# Altium footprint library IoT-A28LI V1.00.PcbLib: 55 footprints (part 4 of 4)
Each footprint in its own frame and in the unit in brackets; x right, y up, seen from the top. Pads: shape width x height; smd on the part's side, far side on the other; paste and mask are expansions set on the pad; w line width, h text height; cw(c..) or ccw(c..) is an arc to the next point about the centre after c.
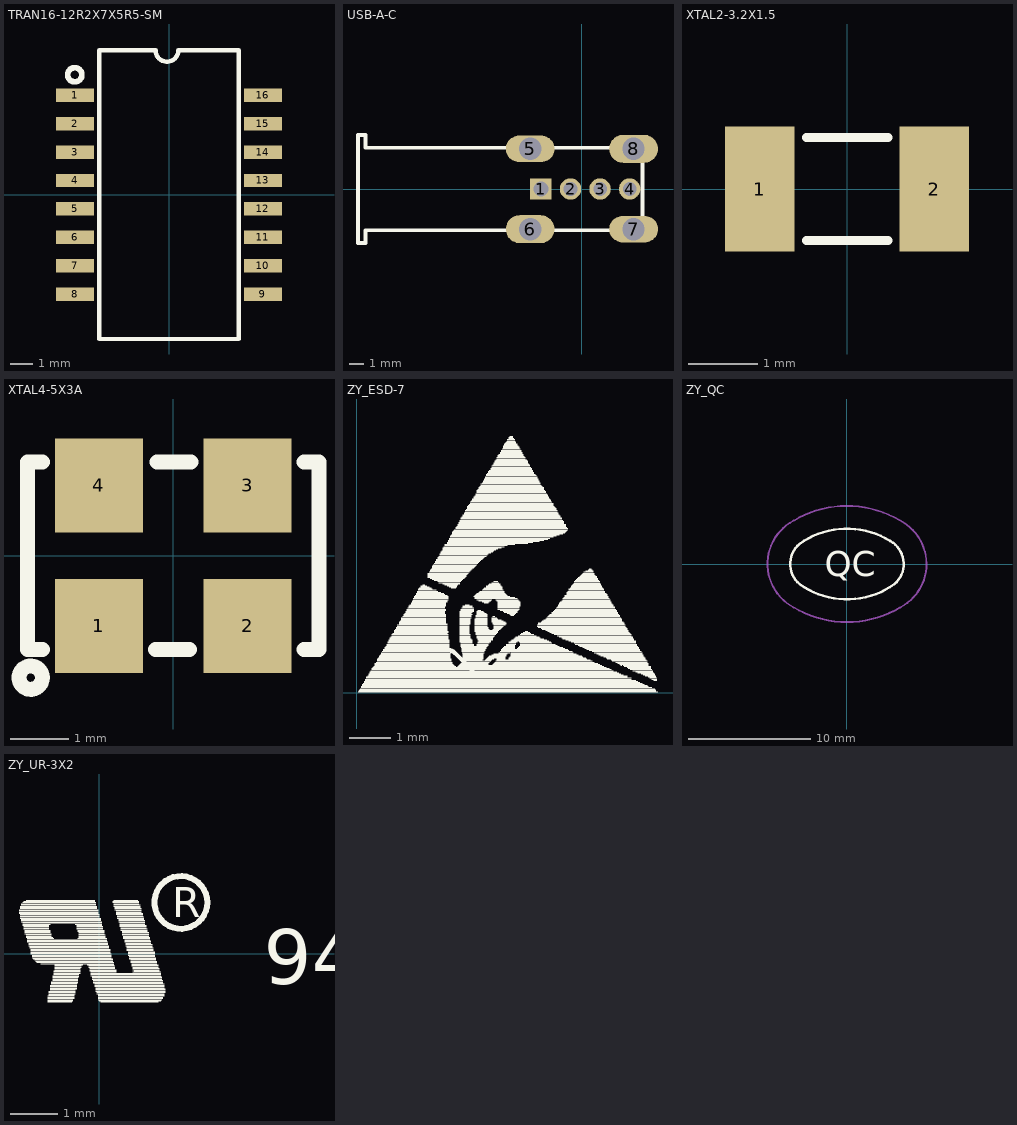
[diagram p3: the footprints below, top view; thin cyan lines are the x and y axes]

## TRAN16-12R2X7X5R5-SM [mm]
pads (16):
  rect 1.7x0.6 smd: 1(-4.2,4.445) 2(-4.2,3.175) 3(-4.2,1.905) 4(-4.2,0.635) 5(-4.2,-0.635) 6(-4.2,-1.905) 7(-4.2,-3.175) 8(-4.2,-4.445) 9(4.2,-4.445) 10(4.2,-3.175) 11(4.2,-1.905) 12(4.2,-0.635) 13(4.2,0.635) 14(4.2,1.905) 15(4.2,3.175) 16(4.2,4.445)
Top Overlay:
  circle w0.254: c-4.212,5.359 r0.317
  lines w0.2: -3.124,-6.45 3.124,-6.45 3.124,6.45 0.418,6.45 cw(c-0.091,6.45) -0.6,6.45 -3.124,6.45 -3.124,-6.45

## USB-A-C [mm]
pads (8):
  rect 1.45x1.45 hole 1.016: 1(-2.77,0)
  round 1.45 hole 0.92: 2(-0.77,0) 3(1.23,0) 4(3.23,0)
  oval 3.3x1.8 hole 1.5: 5(-3.5,2.72) 7(3.5,-2.72)
  oval 3.3x1.9 hole 1.5: 6(-3.5,-2.72) 8(3.5,2.72)
Top Overlay:
  lines w0.254: -15.15,-3.65 -15.15,3.65 -14.642,3.65 -14.642,2.794 4.1,2.794 4.1,-2.794 -14.642,-2.794 -14.642,-3.65 -15.15,-3.65
3D body: height 20.85, standoff 6.35, extent -15.27,-3.5 -1.27,3.5

## XTAL2-3.2X1.5 [mm]
pads (2):
  rect 1x1.8 smd: 1(-1.253,0) 2(1.25,0)
Top Overlay:
  lines w0.127: -0.584,-0.737 0.584,-0.737 ; -0.584,0.737 0.584,0.737

## XTAL4-5X3A [mm]
pads (4):
  rect 1.5x1.6 smd: 1(-1.27,-1.2) 2(1.27,-1.2) 3(1.27,1.2) 4(-1.27,1.2)
Top Overlay:
  circle w0.254: c-2.435,-2.083 r0.2
  lines w0.254: -2.235,-1.6 -2.489,-1.6 -2.489,1.6 -2.235,1.6 ; -0.305,-1.6 0.279,-1.6 ; -0.279,1.6 0.305,1.6 ; 2.235,-1.6 2.489,-1.6 2.489,1.6 2.235,1.6
3D body: height 1, standoff 0, extent -2.489,-1.6 2.489,1.6

## ZY_ESD-7 [mm]
Top Overlay:
  drawing of 546 lines, arcs and shapes, not listed

## ZY_QC [mm]
Top Overlay:
  lines w0.203: -3.878,1.647 ccw(c-2.489,0) -3.866,-1.657 ; -3.878,1.647 cw(c0,-3.759) 3.528,1.882 ; -3.866,-1.656 ccw(c0,3.759) 3.878,-1.647 ; 3.55,1.875 cw(c2.489,0) 3.878,-1.647
  text "QC" at -1.803,-1.019 h2.06
Mechanical 15:
  lines w0.152: -4.369,3.543 ccw(c-2.489,0) -4.362,-3.547 ; -4.36,-3.545 ccw(c0.005,3.759) 4.364,-3.549 ; -4.359,3.549 cw(c0,-3.759) 4.312,3.577 ; 4.311,3.576 cw(c2.494,0) 4.374,-3.543

## ZY_UR-3X2 [mm]
Top Overlay:
  drawing of 193 lines, arcs and shapes, not listed
  text "94V-0" at 3.484,-0.637 h1.17
  text "R" at 1.549,0.775 h0.64